# EAGLE library part TM4C123GH6PZ-SPLIT (library tiva-temp)
tm4c123gh6pz_ra0_lqfp_v0p1 edit this description Auto generated by make-symbol-device-package-bsdl.ulp Rev. 44 Source: tm4c123gh6pz_ra0_lqfp_v0p1.bsdl Connect-List generated from TM4C123GH6PZ.DEV Variant '' with connect-device-split-symbol.ulp
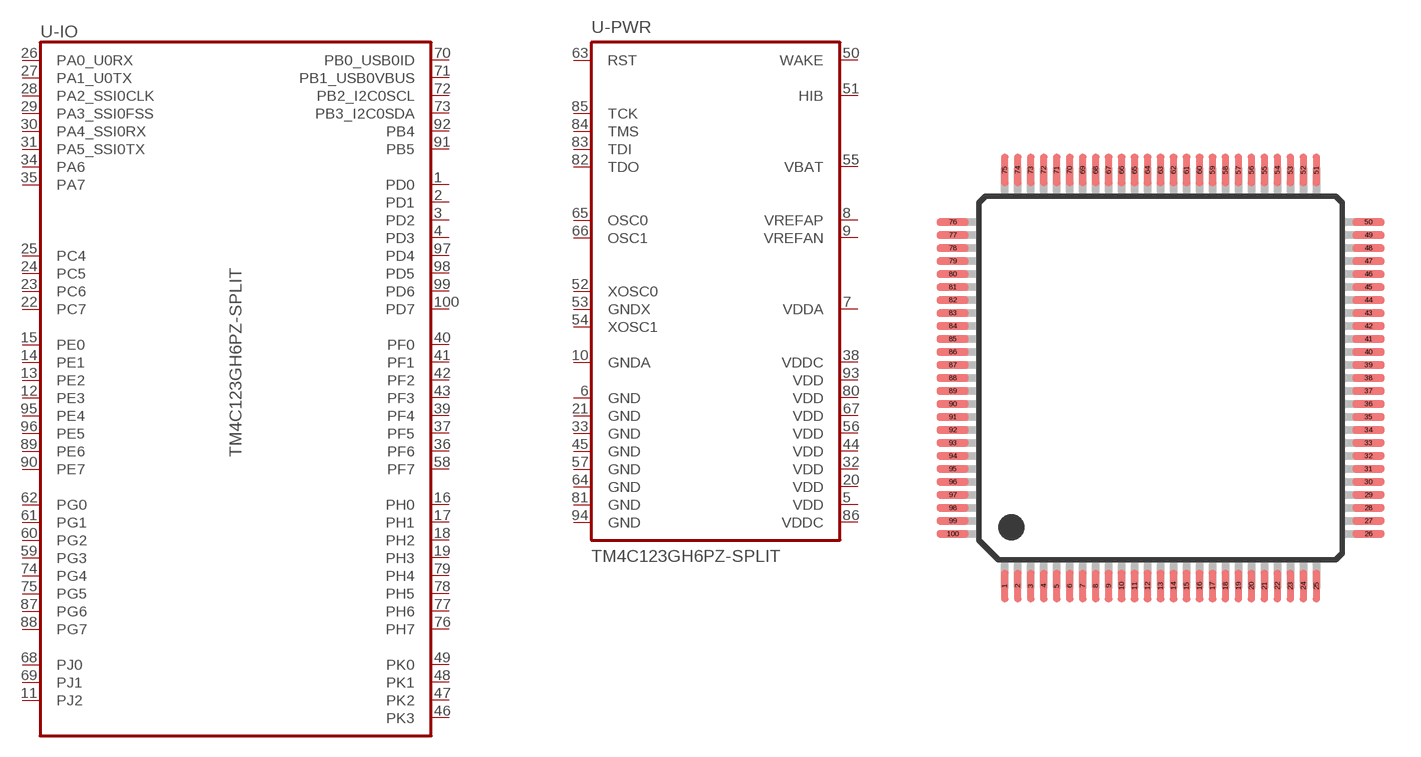
[diagram p1: symbol with the pads of LQFP100; footprint LQFP100]

Designator prefix U; gates -IO=TM4C123GH6PZ-IO -PWR=TM4C123GH6PZ-PWR

## TM4C123GH6PZ-SPLIT  [LQFP100]
1  -IO:PD0
2  -IO:PD1
3  -IO:PD2
4  -IO:PD3
5  -PWR:VDD  pwr
6  -PWR:GND  pwr
7  -PWR:VDDA  pwr
8  -PWR:VREFAP  pas
9  -PWR:VREFAN  pas
10  -PWR:GNDA  pwr
11  -IO:PJ2
12  -IO:PE3
13  -IO:PE2
14  -IO:PE1
15  -IO:PE0
16  -IO:PH0
17  -IO:PH1
18  -IO:PH2
19  -IO:PH3
20  -PWR:VDD  pwr
21  -PWR:GND  pwr
22  -IO:PC7
23  -IO:PC6
24  -IO:PC5
25  -IO:PC4
26  -IO:PA0_U0RX
27  -IO:PA1_U0TX
28  -IO:PA2_SSI0CLK
29  -IO:PA3_SSI0FSS
30  -IO:PA4_SSI0RX
31  -IO:PA5_SSI0TX
32  -PWR:VDD  pwr
33  -PWR:GND  pwr
34  -IO:PA6
35  -IO:PA7
36  -IO:PF6
37  -IO:PF5
38  -PWR:VDDC  pwr
39  -IO:PF4
40  -IO:PF0
41  -IO:PF1
42  -IO:PF2
43  -IO:PF3
44  -PWR:VDD  pwr
45  -PWR:GND  pwr
46  -IO:PK3
47  -IO:PK2
48  -IO:PK1
49  -IO:PK0
50  -PWR:WAKE  pas
51  -PWR:HIB  pas
52  -PWR:XOSC0  pas
53  -PWR:GNDX  pwr
54  -PWR:XOSC1  pas
55  -PWR:VBAT  pas
56  -PWR:VDD  pwr
57  -PWR:GND  pwr
58  -IO:PF7
59  -IO:PG3
60  -IO:PG2
61  -IO:PG1
62  -IO:PG0
63  -PWR:RST  pas
64  -PWR:GND  pwr
65  -PWR:OSC0  pas
66  -PWR:OSC1  pas
67  -PWR:VDD  pwr
68  -IO:PJ0
69  -IO:PJ1
70  -IO:PB0_USB0ID
71  -IO:PB1_USB0VBUS
72  -IO:PB2_I2C0SCL
73  -IO:PB3_I2C0SDA
74  -IO:PG4
75  -IO:PG5
76  -IO:PH7
77  -IO:PH6
78  -IO:PH5
79  -IO:PH4
80  -PWR:VDD  pwr
81  -PWR:GND  pwr
82  -PWR:TDO  out
83  -PWR:TDI  in
84  -PWR:TMS  in
85  -PWR:TCK  in
86  -PWR:VDDC  pwr
87  -IO:PG6
88  -IO:PG7
89  -IO:PE6
90  -IO:PE7
91  -IO:PB5
92  -IO:PB4
93  -PWR:VDD  pwr
94  -PWR:GND  pwr
95  -IO:PE4
96  -IO:PE5
97  -IO:PD4
98  -IO:PD5
99  -IO:PD6
100  -IO:PD7

## Footprint LQFP100 (pad centres in mm)
LQFP-100 Package
smd 0.3 x 1.25: 1 -6,-8; 2 -5.5,-8; 3 -5,-8; 4 -4.5,-8; 5 -4,-8; 6 -3.5,-8; 7 -3,-8; 8 -2.5,-8; 9 -2,-8; 10 -1.5,-8; 11 -1,-8; 12 -0.5,-8; 13 0,-8; 14 0.5,-8; 15 1,-8; 16 1.5,-8; 17 2,-8; 18 2.5,-8; 19 3,-8; 20 3.5,-8; 21 4,-8; 22 4.5,-8; 23 5,-8; 24 5.5,-8; 25 6,-8; 51 6,8; 52 5.5,8; 53 5,8; 54 4.5,8; 55 4,8; 56 3.5,8; 57 3,8; 58 2.5,8; 59 2,8; 60 1.5,8; 61 1,8; 62 0.5,8; 63 0,8; 64 -0.5,8; 65 -1,8; 66 -1.5,8; 67 -2,8; 68 -2.5,8; 69 -3,8; 70 -3.5,8; 71 -4,8; 72 -4.5,8; 73 -5,8; 74 -5.5,8; 75 -6,8
smd 1.25 x 0.3: 26 8,-6; 27 8,-5.5; 28 8,-5; 29 8,-4.5; 30 8,-4; 31 8,-3.5; 32 8,-3; 33 8,-2.5; 34 8,-2; 35 8,-1.5; 36 8,-1; 37 8,-0.5; 38 8,0; 39 8,0.5; 40 8,1; 41 8,1.5; 42 8,2; 43 8,2.5; 44 8,3; 45 8,3.5; 46 8,4; 47 8,4.5; 48 8,5; 49 8,5.5; 50 8,6; 76 -8,6; 77 -8,5.5; 78 -8,5; 79 -8,4.5; 80 -8,4; 81 -8,3.5; 82 -8,3; 83 -8,2.5; 84 -8,2; 85 -8,1.5; 86 -8,1; 87 -8,0.5; 88 -8,0; 89 -8,-0.5; 90 -8,-1; 91 -8,-1.5; 92 -8,-2; 93 -8,-2.5; 94 -8,-3; 95 -8,-3.5; 96 -8,-4; 97 -8,-4.5; 98 -8,-5; 99 -8,-5.5; 100 -8,-6